# EAGLE library part TLW-121-05-T-S (library SAMTEC-Txx_By_element14_Batch_1)
CONNECTOR HEADER, 21 WAY, 1ROW
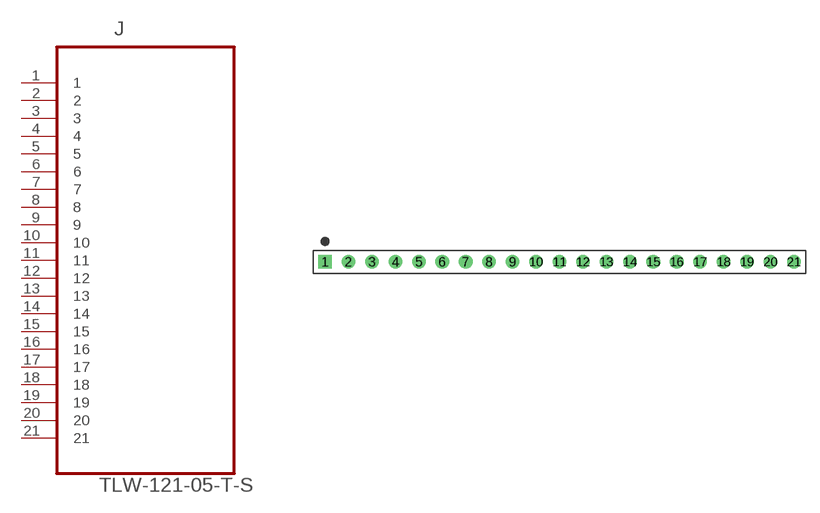
[diagram p261: symbol with the pads of SAMTEC_TLW-121-05-T-S; footprint SAMTEC_TLW-121-05-T-S]

Designator prefix J

## TLW-121-05-T-S (MPN: TLW-121-05-T-S; OC_FARNELL: -; OC_NEWARK: 12P0522; PACKAGE: CONN HEADER 21 POS .100 inch; SUPPLIER: SAMTEC)  [SAMTEC_TLW-121-05-T-S]
1  1  pas
2  2  pas
3  3  pas
4  4  pas
5  5  pas
6  6  pas
7  7  pas
8  8  pas
9  9  pas
10  10  pas
11  11  pas
12  12  pas
13  13  pas
14  14  pas
15  15  pas
16  16  pas
17  17  pas
18  18  pas
19  19  pas
20  20  pas
21  21  pas

## Footprint SAMTEC_TLW-121-05-T-S (pad centres in mm)
drill 0.965 square: 1 -50.8,0
drill 0.965: 2 -48.26,0; 3 -45.72,0; 4 -43.18,0; 5 -40.64,0; 6 -38.1,0; 7 -35.56,0; 8 -33.02,0; 9 -30.48,0; 10 -27.94,0; 11 -25.4,0; 12 -22.86,0; 13 -20.32,0; 14 -17.78,0; 15 -15.24,0; 16 -12.7,0; 17 -10.16,0; 18 -7.62,0; 19 -5.08,0; 20 -2.54,0; 21 0,0